# EAGLE library part ODROID-U3 (library odroid-u3)
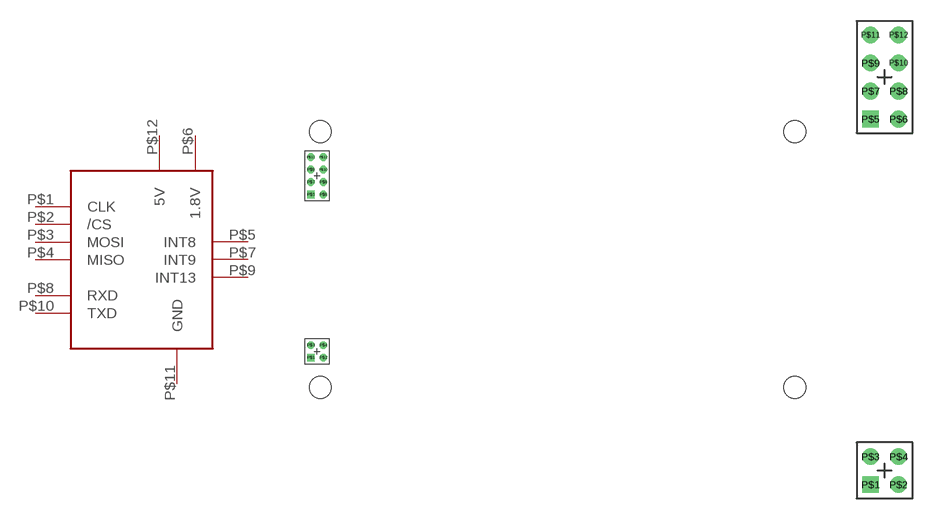
[diagram p0: symbol with the pads of U3V05; footprints U3V05, U3V05H]

Designator prefix -

## ODROID-U3  [U3V05]
P$1  CLK
P$2  /CS
P$3  MOSI  out
P$4  MISO  in
P$5  INT8
P$6  1.8V  sup
P$7  INT9
P$8  RXD
P$9  INT13
P$10  TXD
P$11  GND  sup
P$12  5V  sup

## ODROID-U3PINSONLY  [U3V05H]
Pads as for U3V05

## Footprint U3V05 (pad centres in mm)
ODROID U3 v0.5 outline and I/O
drill 0.7 square: P$1 2,8.3; P$5 2,34.425
drill 0.7: P$2 4,8.3; P$3 2,10.3; P$4 4,10.3; P$6 4,34.425; P$7 2,36.425; P$8 4,36.425; P$9 2,38.425; P$10 4,38.425; P$11 2,40.425; P$12 4,40.425
hole 3.5 at 79.5,3.5
hole 3.5 at 79.5,44.5
hole 3.5 at 3.5,3.5
hole 3.5 at 3.5,44.5

## Footprint U3V05H (pad centres in mm)
drill 0.7 square: P$1 -1.01,-1; P$5 -1.01,25.125
drill 0.7: P$2 0.99,-1; P$3 -1.01,1; P$4 0.99,1; P$6 0.99,25.125; P$7 -1.01,27.125; P$8 0.99,27.125; P$9 -1.01,29.125; P$10 0.99,29.125; P$11 -1.01,31.125; P$12 0.99,31.125